# Altium schematic symbol library SCH - POWER - SUPERVISOR - ROHM BM1Z101FJ.SchLib: 1 symbol
Pins are listed as number, name and electrical type; pins without a type are passive.

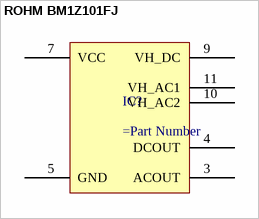
[diagram p0: symbol ROHM BM1Z101FJ]

## ROHM BM1Z101FJ
designator IC?
pins: 3 ACOUT, 4 DCOUT, 5 GND, 7 VCC, 9 VH_DC, 10 VH_AC2, 11 VH_AC1